# EAGLE library part IRS2004PBF (library IRS2004PBF)
Infineon IRS2004PBF Dual MOSFET Power Driver, 0.6A Half Bridge, 10 20 V 8-Pin, PDIP Source: Datasheet <https://www.infineon.com/cms/en/product/power/gate-driver-ics/?>
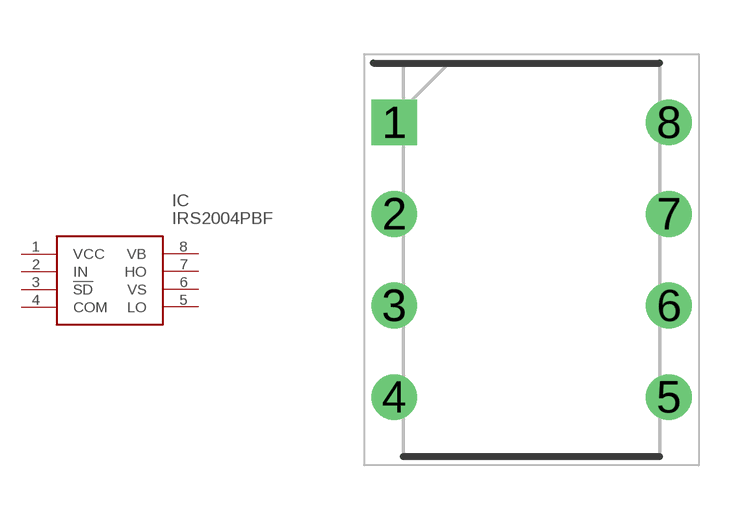
[diagram p0: symbol with the pads of DIP762W56P254L988H533Q8N; footprint DIP762W56P254L988H533Q8N]

Designator prefix IC

## IRS2004PBF (Description: Infineon IRS2004PBF Dual MOSFET Power Driver, 0.6A Half Bridge, 10 20 V 8-Pin, PDIP; Height: 5.33mm; Manufacturer_Name: Infineon; Manufacturer_Part_Number: IRS2004PBF)  [DIP762W56P254L988H533Q8N]
1  VCC
2  IN
3  !SD
4  COM
5  LO
6  VS
7  HO
8  VB

## Footprint DIP762W56P254L988H533Q8N (pad centres in mm)
8-Lead PDIP
drill 0.758 pad 1.158 square: 1 -3.81,3.81
drill 0.758 pad 1.158: 2 -3.81,1.27; 3 -3.81,-1.27; 4 -3.81,-3.81; 5 3.81,-3.81; 6 3.81,-1.27; 7 3.81,1.27; 8 3.81,3.81